# Altium integrated library Analog Devices RF IF Direct Digital Synthesis.IntLib: 76 symbols (part 8 of 9)
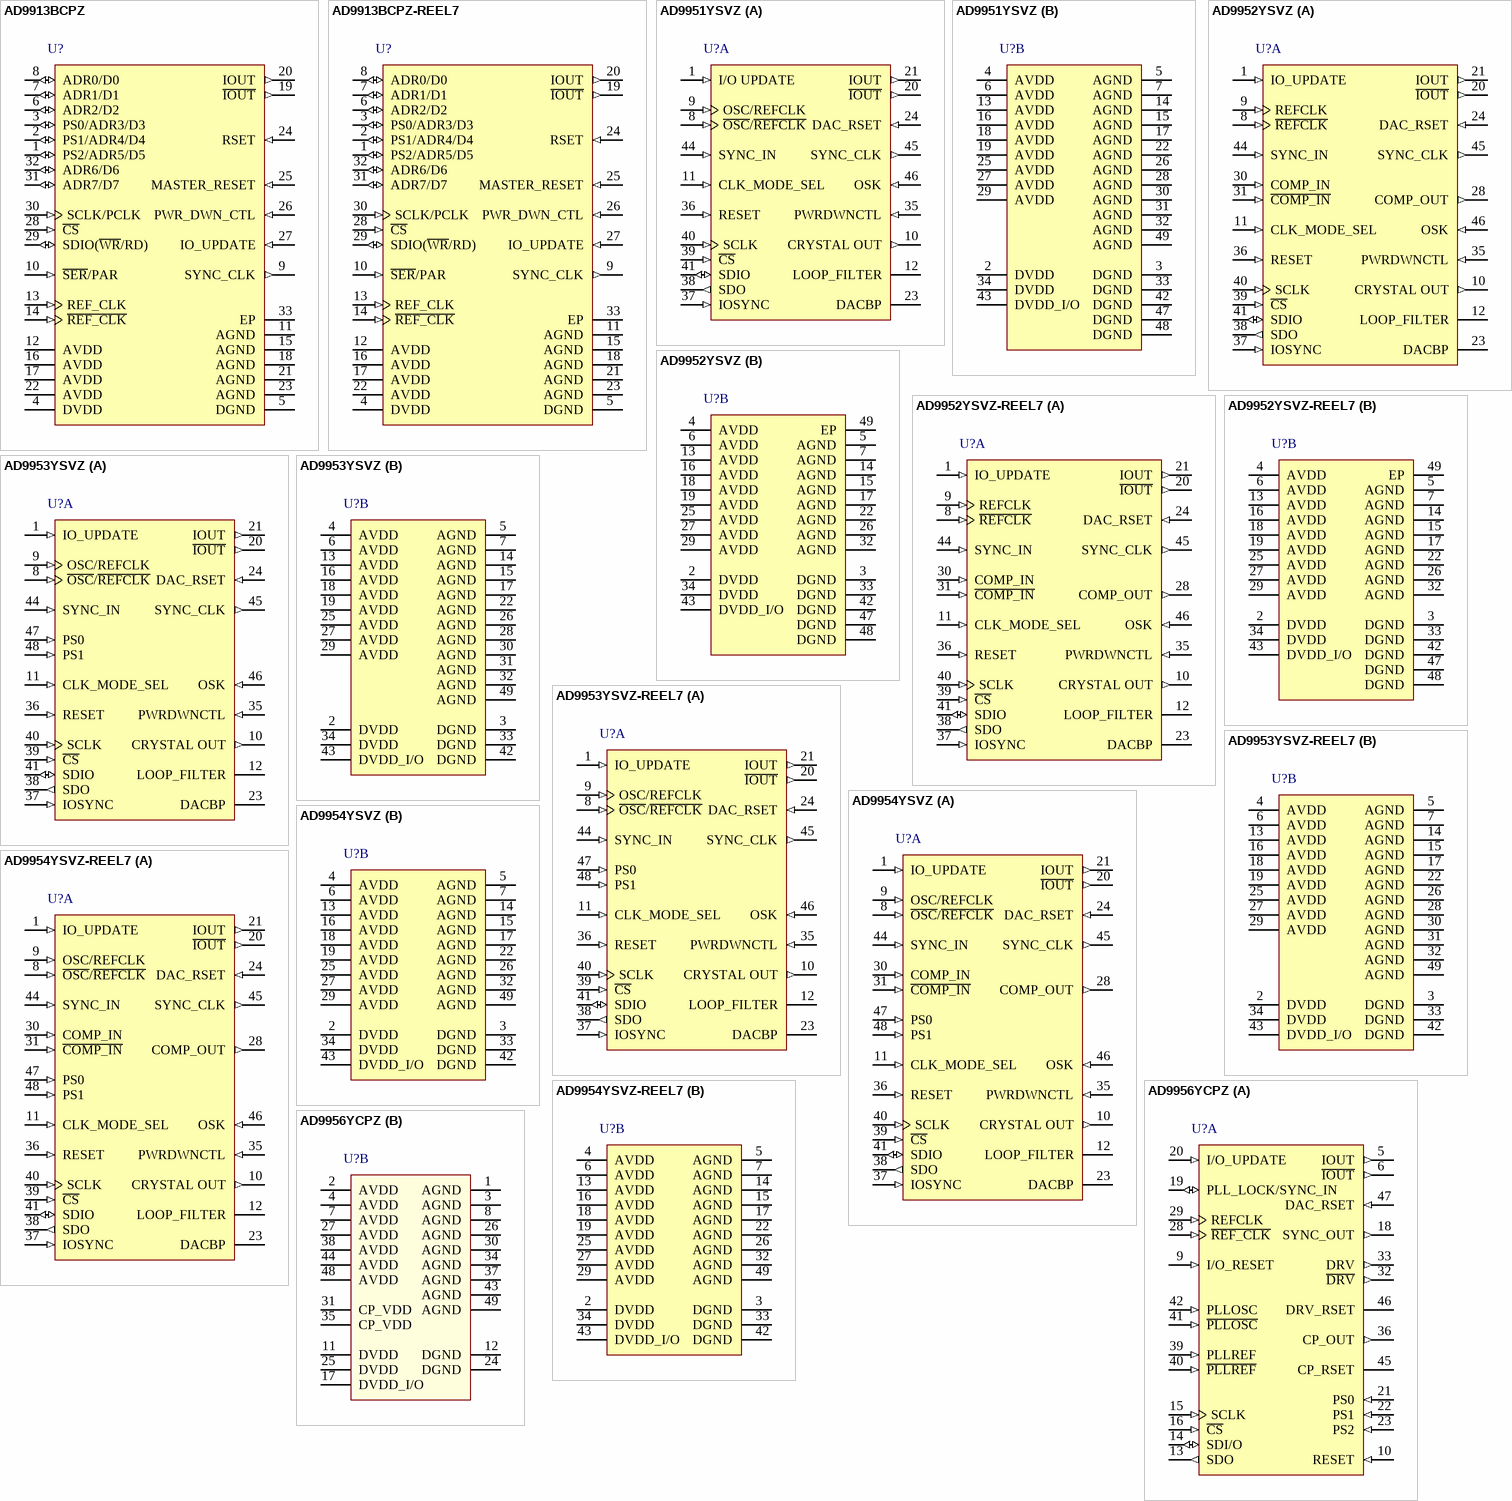
[diagram p12: symbols AD9913BCPZ to AD9956YCPZ]

## AD9953YSVZ
designator U?
400 MSPS, 14-Bit, 1.8 V CMOS Direct Digital Synthesizer, Serial, SV-48-4, 250 Tray, Pb-Free; Master fclk: 400MHz; Resolution (Bits): 14bit; Tuning Word Width (bits): 32bit; REFCLK Multiplier: Yes; Compliance Range (V): 2.05V; FS Iout (mA nom): 10mA; DatasheetVersion: Rev. A; PackageVersion: 10/21/2005; PackageReference: SV-48-4; PackageDescription: 48-Lead Thin Quad Flat Package, Exposed Pad [TQFP_EP]; I/O Interface: Serial; Code_JEDEC: MS-026-ABC; ComponentLink1Description: Manufacturer URL; ComponentLink1URL: www.analog.com; ComponentLink2Description: Datasheet; ComponentLink2URL: http://www.analog.com/static/imported-files/data_sheets/AD9953.pdf; ComponentLink3Description: Package Specification; ComponentLink3URL: http://www.analog.com/static/imported-files/packages/PKG_PDF/TQFP_ED(SV)/SV_48_4.pdf
footprint ADI-SV-48-4_N (Thin QFP, 48-Leads, Body 7x7mm, Pitch 0.5mm, Thermal Pad 3.5x3.5mm, IPC Medium Density)
footprint ADI-SV-48-4_L (Thin QFP, 48-Leads, Body 7x7mm, Pitch 0.5mm, Thermal Pad 3.5x3.5mm, IPC High Density)
footprint ADI-SV-48-4_M (Thin QFP, 48-Leads, Body 7x7mm, Pitch 0.5mm, Thermal Pad 3.5x3.5mm, IPC Low Density)
part A pins: 1 IO_UPDATE (in) "The rising edge transfers the contents of the internal buffer memory to the I/O registers. This pin must be set up and held around the SYNC_CLK output signal.", 8 ~{OSC}/~{REFCLK} (in) "Complementary Reference Clock/Oscillator Input. When the REFCLK port is operated in singleended mode, REFCLK should be decoupled to AVDDwith a 0.1 uF capacitor.", 9 OSC/REFCLK (in) "Reference Clock/Oscillator Input. See Clock Input section for details on the OSCILLATOR/REFCLK operation.", 10 CRYSTAL OUT (out) "Output of the Oscillator Section", 11 CLK_MODE_SEL (in) "Control Pin for the Oscillator Section. When high, the oscillator section is enabled. When low, the oscillator section is bypassed.", 12 LOOP_FILTER "This pin provides the connection for the external zero compensation network of the REFCLK multiplier’s PLL loop filter. [see datasheet]", 20 ~{IOUT} (out) "Complementary DAC Output. Should be biased through a resistor to AVDD, not AGND", 21 IOUT (out) "DAC Output. Should be biased through a resistor to AVDD, not AGND.", 23 DACBP "DAC Biasline Decoupling Pin. A 0.1 uF capacitor to AGND is recommended.", 24 DAC_RSET (in) "A resistor (3.92 k ohm nominal) connected from AGND to DAC_RSET establishes the reference current for the DAC.", 35 PWRDWNCTL (in) "Input Pin Used as an External Power-Down Control (see Table 10 for details).", 36 RESET (in) "Active High Hardware Reset Pin. Assertion of the RESET pin forces the AD9953 to the initial state, as described in the I/O port register map.", 37 IOSYNC (in) "Asynchronous Active High Reset of the Serial Port Controller. When high, the current I/O operation is immediately terminated, enabling a new I/O operation to commence once IOSYNC is returned low. [see datasheet]", 38 SDO (out) "When operating the I/O port as a 3-wire serial port, this pin serves as the serial data output. When operated as a 2-wire serial port, this pin is unused and can be left unconnected.", 39 ~{CS} (in) "This pin functions as an active low chip select that allows multiple devices to share the I/O bus", 40 SCLK (in) "This pin functions as the serial data clock for I/O operations.", 41 SDIO (io) "When operating the I/O port as a 3-wire serial port, this pin serves as the serial data input only. When operated as a 2-wire serial port, this pin is the bidirectional serial data pin.", 44 SYNC_IN (in) "Input Signal Used to Synchronize Multiple AD9953s. This input is connected to the SYNC_CLK output of a master AD9953.", 45 SYNC_CLK (out) "Clock Output Pin that Serves as a Synchronizer for External Hardware", 46 OSK (in) "Input Pin Used to Control the Direction of the Shaped On-Off Keying Function when Programmed for Operation. OSK is synchronous to the SYNC_CLK pin. [see datasheet]", 47 PS0 (in) "Input pin used to select one of the four internal profiles. Profile <1:0> are synchronous to the SYNC_CLK pin. [see datasheet]", 48 PS1 (in) "Input pin used to select one of the four internal profiles. Profile <1:0> are synchronous to the SYNC_CLK pin. [see datasheet]"
part B pins: 2 DVDD (power) "Digital Power Supply Pins (1.8 V).", 3 DGND (power) "Digital Power Ground Pins.", 4 AVDD (power) "Analog Power Supply Pins (1.8 V).", 5 AGND (power) "Analog Power Ground Pins.", 6 AVDD (power) "Analog Power Supply Pins (1.8 V).", 7 AGND (power) "Analog Power Ground Pins.", 13 AVDD (power) "Analog Power Supply Pins (1.8 V).", 14 AGND (power) "Analog Power Ground Pins.", 15 AGND (power) "Analog Power Ground Pins.", 16 AVDD (power) "Analog Power Supply Pins (1.8 V).", 17 AGND (power) "Analog Power Ground Pins.", 18 AVDD (power) "Analog Power Supply Pins (1.8 V).", 19 AVDD (power) "Analog Power Supply Pins (1.8 V).", 22 AGND (power) "Analog Power Ground Pins.", 25 AVDD (power) "Analog Power Supply Pins (1.8 V).", 26 AGND (power) "Analog Power Ground Pins.", 27 AVDD (power) "Analog Power Supply Pins (1.8 V).", 28 AGND (power) "Analog Power Ground Pins.", 29 AVDD (power) "Analog Power Supply Pins (1.8 V).", 30 AGND (power) "Analog Power Ground Pins.", 31 AGND (power) "Analog Power Ground Pins.", 32 AGND (power) "Analog Power Ground Pins.", 33 DGND (power) "Digital Power Ground Pins.", 34 DVDD (power) "Digital Power Supply Pins (1.8 V).", 42 DGND (power) "Digital Power Ground Pins.", 43 DVDD_I/O (power) "Digital Power Supply (for I/O Cells Only, 3.3 V).", 49 AGND (power) "The exposed paddle on the bottom of the package is a ground connection for the DAC and must be attached to AGND in any board layout."

## AD9953YSVZ-REEL7
designator U?
400 MSPS, 14-Bit, 1.8 V CMOS Direct Digital Synthesizer, Serial, SV-48-4, 500 Reel, Pb-Free; Master fclk: 400MHz; Resolution (Bits): 14bit; Tuning Word Width (bits): 32bit; REFCLK Multiplier: Yes; Compliance Range (V): 2.05V; FS Iout (mA nom): 10mA; DatasheetVersion: Rev. A; PackageVersion: 10/21/2005; PackageReference: SV-48-4; PackageDescription: 48-Lead Thin Quad Flat Package, Exposed Pad [TQFP_EP]; I/O Interface: Serial; Code_JEDEC: MS-026-ABC; ComponentLink1Description: Manufacturer URL; ComponentLink1URL: www.analog.com; ComponentLink2Description: Datasheet; ComponentLink2URL: http://www.analog.com/static/imported-files/data_sheets/AD9953.pdf; ComponentLink3Description: Package Specification; ComponentLink3URL: http://www.analog.com/static/imported-files/packages/PKG_PDF/TQFP_ED(SV)/SV_48_4.pdf
footprint ADI-SV-48-4_N (Thin QFP, 48-Leads, Body 7x7mm, Pitch 0.5mm, Thermal Pad 3.5x3.5mm, IPC Medium Density)
footprint ADI-SV-48-4_L (Thin QFP, 48-Leads, Body 7x7mm, Pitch 0.5mm, Thermal Pad 3.5x3.5mm, IPC High Density)
footprint ADI-SV-48-4_M (Thin QFP, 48-Leads, Body 7x7mm, Pitch 0.5mm, Thermal Pad 3.5x3.5mm, IPC Low Density)
part A pins: 1 IO_UPDATE (in) "The rising edge transfers the contents of the internal buffer memory to the I/O registers. This pin must be set up and held around the SYNC_CLK output signal.", 8 ~{OSC}/~{REFCLK} (in) "Complementary Reference Clock/Oscillator Input. When the REFCLK port is operated in singleended mode, REFCLK should be decoupled to AVDDwith a 0.1 uF capacitor.", 9 OSC/REFCLK (in) "Reference Clock/Oscillator Input. See Clock Input section for details on the OSCILLATOR/REFCLK operation.", 10 CRYSTAL OUT (out) "Output of the Oscillator Section", 11 CLK_MODE_SEL (in) "Control Pin for the Oscillator Section. When high, the oscillator section is enabled. When low, the oscillator section is bypassed.", 12 LOOP_FILTER "This pin provides the connection for the external zero compensation network of the REFCLK multiplier’s PLL loop filter. [see datasheet]", 20 ~{IOUT} (out) "Complementary DAC Output. Should be biased through a resistor to AVDD, not AGND", 21 IOUT (out) "DAC Output. Should be biased through a resistor to AVDD, not AGND.", 23 DACBP "DAC Biasline Decoupling Pin. A 0.1 uF capacitor to AGND is recommended.", 24 DAC_RSET (in) "A resistor (3.92 k ohm nominal) connected from AGND to DAC_RSET establishes the reference current for the DAC.", 35 PWRDWNCTL (in) "Input Pin Used as an External Power-Down Control (see Table 10 for details).", 36 RESET (in) "Active High Hardware Reset Pin. Assertion of the RESET pin forces the AD9953 to the initial state, as described in the I/O port register map.", 37 IOSYNC (in) "Asynchronous Active High Reset of the Serial Port Controller. When high, the current I/O operation is immediately terminated, enabling a new I/O operation to commence once IOSYNC is returned low. [see datasheet]", 38 SDO (out) "When operating the I/O port as a 3-wire serial port, this pin serves as the serial data output. When operated as a 2-wire serial port, this pin is unused and can be left unconnected.", 39 ~{CS} (in) "This pin functions as an active low chip select that allows multiple devices to share the I/O bus", 40 SCLK (in) "This pin functions as the serial data clock for I/O operations.", 41 SDIO (io) "When operating the I/O port as a 3-wire serial port, this pin serves as the serial data input only. When operated as a 2-wire serial port, this pin is the bidirectional serial data pin.", 44 SYNC_IN (in) "Input Signal Used to Synchronize Multiple AD9953s. This input is connected to the SYNC_CLK output of a master AD9953.", 45 SYNC_CLK (out) "Clock Output Pin that Serves as a Synchronizer for External Hardware", 46 OSK (in) "Input Pin Used to Control the Direction of the Shaped On-Off Keying Function when Programmed for Operation. OSK is synchronous to the SYNC_CLK pin. [see datasheet]", 47 PS0 (in) "Input pin used to select one of the four internal profiles. Profile <1:0> are synchronous to the SYNC_CLK pin. [see datasheet]", 48 PS1 (in) "Input pin used to select one of the four internal profiles. Profile <1:0> are synchronous to the SYNC_CLK pin. [see datasheet]"
part B pins: 2 DVDD (power) "Digital Power Supply Pins (1.8 V).", 3 DGND (power) "Digital Power Ground Pins.", 4 AVDD (power) "Analog Power Supply Pins (1.8 V).", 5 AGND (power) "Analog Power Ground Pins.", 6 AVDD (power) "Analog Power Supply Pins (1.8 V).", 7 AGND (power) "Analog Power Ground Pins.", 13 AVDD (power) "Analog Power Supply Pins (1.8 V).", 14 AGND (power) "Analog Power Ground Pins.", 15 AGND (power) "Analog Power Ground Pins.", 16 AVDD (power) "Analog Power Supply Pins (1.8 V).", 17 AGND (power) "Analog Power Ground Pins.", 18 AVDD (power) "Analog Power Supply Pins (1.8 V).", 19 AVDD (power) "Analog Power Supply Pins (1.8 V).", 22 AGND (power) "Analog Power Ground Pins.", 25 AVDD (power) "Analog Power Supply Pins (1.8 V).", 26 AGND (power) "Analog Power Ground Pins.", 27 AVDD (power) "Analog Power Supply Pins (1.8 V).", 28 AGND (power) "Analog Power Ground Pins.", 29 AVDD (power) "Analog Power Supply Pins (1.8 V).", 30 AGND (power) "Analog Power Ground Pins.", 31 AGND (power) "Analog Power Ground Pins.", 32 AGND (power) "Analog Power Ground Pins.", 33 DGND (power) "Digital Power Ground Pins.", 34 DVDD (power) "Digital Power Supply Pins (1.8 V).", 42 DGND (power) "Digital Power Ground Pins.", 43 DVDD_I/O (power) "Digital Power Supply (for I/O Cells Only, 3.3 V).", 49 AGND (power) "The exposed paddle on the bottom of the package is a ground connection for the DAC and must be attached to AGND in any board layout."

## AD9954YSVZ
designator U?
400 MSPS, 14-Bit, 1.8 V CMOS Direct Digital Synthesizer, Serial, SV-48-4, 250 Tray, Pb-Free; Master fclk: 400MHz; Resolution (Bits): 14bit; Tuning Word Width (bits): 32bit; REFCLK Multiplier: Yes; Compliance Range (V): 2.05V; FS Iout (mA nom): 10mA; DatasheetVersion: Rev. B; PackageVersion: 10/21/2005; PackageReference: SV-48-4; PackageDescription: 48-Lead Thin Quad Flat Package, Exposed Pad [TQFP_EP]; I/O Interface: Serial; Code_JEDEC: MS-026-ABC; ComponentLink1Description: Manufacturer URL; ComponentLink1URL: www.analog.com; ComponentLink2Description: Datasheet; ComponentLink2URL: http://www.analog.com/static/imported-files/data_sheets/AD9954.pdf; ComponentLink3Description: Package Specification; ComponentLink3URL: http://www.analog.com/static/imported-files/packages/PKG_PDF/TQFP_ED(SV)/SV_48_4.pdf
footprint ADI-SV-48-4_N (Thin QFP, 48-Leads, Body 7x7mm, Pitch 0.5mm, Thermal Pad 3.5x3.5mm, IPC Medium Density)
footprint ADI-SV-48-4_L (Thin QFP, 48-Leads, Body 7x7mm, Pitch 0.5mm, Thermal Pad 3.5x3.5mm, IPC High Density)
footprint ADI-SV-48-4_M (Thin QFP, 48-Leads, Body 7x7mm, Pitch 0.5mm, Thermal Pad 3.5x3.5mm, IPC Low Density)
part A pins: 1 IO_UPDATE (in) "The rising edge transfers the contents of the internal buffer memory to the I/O registers.  See Synchronization—Register Updates (I/O UPDATE) section for details", 8 ~{OSC}/~{REFCLK} (in) "Oscillator Input/Complementary Reference Clock. When the REFCLK port is operated in  single-ended mode, REFCLK should be decoupled to AVDD with a 0.1 uF capacitor", 9 OSC/REFCLK (in) "Oscillator Input/Reference Clock. See Table 5 for details on the OSC/REFCLK operation", 10 CRYSTAL OUT (out) "Output of the Oscillator Section", 11 CLK_MODE_SEL (in) "Control Pin for the Oscillator Section (1.8 V logic only). See REFCLK Input section for detailed instructions.", 12 LOOP_FILTER "This pin provides the connection for the external zero compensation network of the REFCLK multiplier’s PLL loop filter. The network varies based on the multiplication value in the PLL loop. [see datasheet]", 20 ~{IOUT} (out) "Complementary DAC Output. Should be biased through a resistor to AVDD, not AGND", 21 IOUT (out) "DAC Output. Should be biased through a resistor to AVDD, not AGND.", 23 DACBP "DAC Band Gap Decoupling Pin. A 0.1 uF capacitor to AGND is recommended", 24 DAC_RSET (in) "A resistor (3.92 k ohm nominal) connected from AGND to DAC_RSET establishes the reference  current for the DAC. See equation in DAC Output section", 28 COMP_OUT (out) "Comparator Output.", 30 COMP_IN (in) "Comparator Input", 31 ~{COMP_IN} (in) "Comparator Complementary Input", 35 PWRDWNCTL (in) "Input Pin Used as an External Power-Down Control (see Table 9 for details)", 36 RESET (in) "Active High Hardware Reset Pin. Assertion of the RESET pin forces the AD9954 to the default state, as described in the right-hand column of Table 12, which is the I/O port register map.", 37 IOSYNC (in) "Asynchronous Active High Reset of the Serial Port Controller. When high, the current I/O operation is immediately terminated, enabling a new I/O operation to commence once  IOSYNC is returned low. [see datasheet]", 38 SDO (out) "See Serial Interface Port Pin Description section for details.", 39 ~{CS} (in) "See Serial Interface Port Pin Description section for details.", 40 SCLK (in) "See Serial Interface Port Pin Description section for details", 41 SDIO (io) "See Serial Interface Port Pin Description section for details", 44 SYNC_IN (in) "Input Signal Used to Synchronize Multiple AD9954s. This input is connected to the SYNC_CLK  output of a master AD9954", 45 SYNC_CLK (out) "Clock Output Pin that Serves as a Synchronizer for External Hardware.", 46 OSK (in) "Input Pin Used to Control the Direction of the Shaped On-Off Keying Function When Programmed for Operation. OSK is synchronous to the SYNC_CLK pin. [see datasheet]", 47 PS0 (in) "Input Pins Used to Select One of the Internal Phase/Frequency Profiles. PS1 and PS0 are synchronous to the SYNC_CLK pin. [see datasheet]", 48 PS1 (in) "Input Pins Used to Select One of the Internal Phase/Frequency Profiles. PS1 and PS0 are synchronous to the SYNC_CLK pin. [see datasheet]"
part B pins: 2 DVDD (power) "Digital Power Supply Pins (1.8 V)", 3 DGND (power) "Digital Power Ground Pins.", 4 AVDD (power) "Analog Power Supply Pins (1.8 V)", 5 AGND (power) "Analog Power Ground Pins", 6 AVDD (power) "Analog Power Supply Pins (1.8 V).", 7 AGND (power) "Analog Power Ground Pins", 13 AVDD (power) "Analog Power Supply Pins (1.8 V).", 14 AGND (power) "Analog Power Ground Pins", 15 AGND (power) "Analog Power Ground Pins", 16 AVDD (power) "Analog Power Supply Pins (1.8 V).", 17 AGND (power) "Analog Power Ground Pins", 18 AVDD (power) "Analog Power Supply Pins (1.8 V).", 19 AVDD (power) "Analog Power Supply Pins (1.8 V).", 22 AGND (power) "Analog Power Ground Pins", 25 AVDD (power) "Analog Power Supply Pins (1.8 V).", 26 AGND (power) "Analog Power Ground Pins", 27 AVDD (power) "Analog Power Supply Pins (1.8 V).", 29 AVDD (power) "Analog Power Supply Pins (1.8 V).", 32 AGND (power) "Analog Power Ground Pins.", 33 DGND (power) "Digital Power Ground Pins.", 34 DVDD (power) "Digital Power Supply Pins (1.8 V).", 42 DGND (power) "Digital Power Ground Pins.", 43 DVDD_I/O (power) "Digital Power Supply. This pin is for I/O cells only, 3.3 V.", 49 AGND (power) "The Exposed Paddle on the Bottom of the Package. It is a ground connection for the DAC and  must be attached to AGND in any board layout."

## AD9954YSVZ-REEL7
designator U?
400 MSPS, 14-Bit, 1.8 V CMOS Direct Digital Synthesizer, Serial, SV-48-4, 500 Reel, Pb-Free; Master fclk: 400MHz; Resolution (Bits): 14bit; Tuning Word Width (bits): 32bit; REFCLK Multiplier: Yes; Compliance Range (V): 2.05V; FS Iout (mA nom): 10mA; DatasheetVersion: Rev. B; PackageVersion: 10/21/2005; PackageReference: SV-48-4; PackageDescription: 48-Lead Thin Quad Flat Package, Exposed Pad [TQFP_EP]; I/O Interface: Serial; Code_JEDEC: MS-026-ABC; ComponentLink1Description: Manufacturer URL; ComponentLink1URL: www.analog.com; ComponentLink2Description: Datasheet; ComponentLink2URL: http://www.analog.com/static/imported-files/data_sheets/AD9954.pdf; ComponentLink3Description: Package Specification; ComponentLink3URL: http://www.analog.com/static/imported-files/packages/PKG_PDF/TQFP_ED(SV)/SV_48_4.pdf
footprint ADI-SV-48-4_N (Thin QFP, 48-Leads, Body 7x7mm, Pitch 0.5mm, Thermal Pad 3.5x3.5mm, IPC Medium Density)
footprint ADI-SV-48-4_L (Thin QFP, 48-Leads, Body 7x7mm, Pitch 0.5mm, Thermal Pad 3.5x3.5mm, IPC High Density)
footprint ADI-SV-48-4_M (Thin QFP, 48-Leads, Body 7x7mm, Pitch 0.5mm, Thermal Pad 3.5x3.5mm, IPC Low Density)
part A pins: 1 IO_UPDATE (in) "The rising edge transfers the contents of the internal buffer memory to the I/O registers.  See Synchronization—Register Updates (I/O UPDATE) section for details", 8 ~{OSC}/~{REFCLK} (in) "Oscillator Input/Complementary Reference Clock. When the REFCLK port is operated in  single-ended mode, REFCLK should be decoupled to AVDD with a 0.1 uF capacitor", 9 OSC/REFCLK (in) "Oscillator Input/Reference Clock. See Table 5 for details on the OSC/REFCLK operation", 10 CRYSTAL OUT (out) "Output of the Oscillator Section", 11 CLK_MODE_SEL (in) "Control Pin for the Oscillator Section (1.8 V logic only). See REFCLK Input section for detailed instructions.", 12 LOOP_FILTER "This pin provides the connection for the external zero compensation network of the REFCLK multiplier’s PLL loop filter. The network varies based on the multiplication value in the PLL loop. [see datasheet]", 20 ~{IOUT} (out) "Complementary DAC Output. Should be biased through a resistor to AVDD, not AGND", 21 IOUT (out) "DAC Output. Should be biased through a resistor to AVDD, not AGND.", 23 DACBP "DAC Band Gap Decoupling Pin. A 0.1 uF capacitor to AGND is recommended", 24 DAC_RSET (in) "A resistor (3.92 k ohm nominal) connected from AGND to DAC_RSET establishes the reference  current for the DAC. See equation in DAC Output section", 28 COMP_OUT (out) "Comparator Output.", 30 COMP_IN (in) "Comparator Input", 31 ~{COMP_IN} (in) "Comparator Complementary Input", 35 PWRDWNCTL (in) "Input Pin Used as an External Power-Down Control (see Table 9 for details)", 36 RESET (in) "Active High Hardware Reset Pin. Assertion of the RESET pin forces the AD9954 to the default state, as described in the right-hand column of Table 12, which is the I/O port register map.", 37 IOSYNC (in) "Asynchronous Active High Reset of the Serial Port Controller. When high, the current I/O operation is immediately terminated, enabling a new I/O operation to commence once  IOSYNC is returned low. [see datasheet]", 38 SDO (out) "See Serial Interface Port Pin Description section for details.", 39 ~{CS} (in) "See Serial Interface Port Pin Description section for details.", 40 SCLK (in) "See Serial Interface Port Pin Description section for details", 41 SDIO (io) "See Serial Interface Port Pin Description section for details", 44 SYNC_IN (in) "Input Signal Used to Synchronize Multiple AD9954s. This input is connected to the SYNC_CLK  output of a master AD9954", 45 SYNC_CLK (out) "Clock Output Pin that Serves as a Synchronizer for External Hardware.", 46 OSK (in) "Input Pin Used to Control the Direction of the Shaped On-Off Keying Function When Programmed for Operation. OSK is synchronous to the SYNC_CLK pin. [see datasheet]", 47 PS0 (in) "Input Pins Used to Select One of the Internal Phase/Frequency Profiles. PS1 and PS0 are synchronous to the SYNC_CLK pin. [see datasheet]", 48 PS1 (in) "Input Pins Used to Select One of the Internal Phase/Frequency Profiles. PS1 and PS0 are synchronous to the SYNC_CLK pin. [see datasheet]"
part B pins: 2 DVDD (power) "Digital Power Supply Pins (1.8 V)", 3 DGND (power) "Digital Power Ground Pins.", 4 AVDD (power) "Analog Power Supply Pins (1.8 V)", 5 AGND (power) "Analog Power Ground Pins", 6 AVDD (power) "Analog Power Supply Pins (1.8 V).", 7 AGND (power) "Analog Power Ground Pins", 13 AVDD (power) "Analog Power Supply Pins (1.8 V).", 14 AGND (power) "Analog Power Ground Pins", 15 AGND (power) "Analog Power Ground Pins", 16 AVDD (power) "Analog Power Supply Pins (1.8 V).", 17 AGND (power) "Analog Power Ground Pins", 18 AVDD (power) "Analog Power Supply Pins (1.8 V).", 19 AVDD (power) "Analog Power Supply Pins (1.8 V).", 22 AGND (power) "Analog Power Ground Pins", 25 AVDD (power) "Analog Power Supply Pins (1.8 V).", 26 AGND (power) "Analog Power Ground Pins", 27 AVDD (power) "Analog Power Supply Pins (1.8 V).", 29 AVDD (power) "Analog Power Supply Pins (1.8 V).", 32 AGND (power) "Analog Power Ground Pins.", 33 DGND (power) "Digital Power Ground Pins.", 34 DVDD (power) "Digital Power Supply Pins (1.8 V).", 42 DGND (power) "Digital Power Ground Pins.", 43 DVDD_I/O (power) "Digital Power Supply. This pin is for I/O cells only, 3.3 V.", 49 AGND (power) "The Exposed Paddle on the Bottom of the Package. It is a ground connection for the DAC and  must be attached to AGND in any board layout."

## AD9956YCPZ
designator U?
2.7 GHz DDS-Based AgileRF Synthesizer, 14-Bit, Serial, CP-48-1, 260 Tray, Pb-Free; Master fclk: 400MHz; Resolution (Bits): 14bit; Tuning Word Width (bits): 48bit; REFCLK Multiplier: No; Compliance Range (V): 2.3V; FS Iout (mA nom): 10mA; DatasheetVersion: Rev. A; PackageVersion: Jan-2005; PackageReference: CP-48-1; PackageDescription: 48-Lead Lead Frame Chip Scale Package [LFCSP_VQ]; I/O Interface: Serial; Code_JEDEC: MO-220-VKKD-2; ComponentLink1Description: Manufacturer URL; ComponentLink1URL: www.analog.com; ComponentLink2Description: Datasheet; ComponentLink2URL: http://www.analog.com/static/imported-files/data_sheets/AD9956.pdf; ComponentLink3Description: Package Specification; ComponentLink3URL: http://www.analog.com/static/imported-files/packages/PKG_PDF/LFCSP(CP)/CP-48/CP_48_1.pdf
footprint ADI-CP-48-1_N (QFN, 48-Leads, Body 7x7mm, Pitch 0.5mm, Thermal Pad 5.1x5.1mm, IPC Medium Density)
footprint ADI-CP-48-1_L (QFN, 48-Leads, Body 7x7mm, Pitch 0.5mm, Thermal Pad 5.1x5.1mm, IPC High Density)
footprint ADI-CP-48-1_M (QFN, 48-Leads, Body 7x7mm, Pitch 0.5mm, Thermal Pad 5.1x5.1mm, IPC Low Density)
part A pins: 5 IOUT (out) "DAC Analog Output.", 6 ~{IOUT} (out) "DAC Analog Complementary Output.", 9 I/O_RESET (in) "Resets the serial port when synchronization is lost in communications but does not reset the device itself (ACTIVE HIGH). When not being used, this pin should be forced low, because it floats to the threshold value. [see datasheet]", 10 RESET (in) "Master RESET. Clears all accumulators and returns all registers to their default values (ACTIVE HIGH).", 13 SDO (out) "Serial Data Output. Used only when device is programmed for 3-wire serial data mode.", 14 SDI/O (io) "Serial Data I/O. When the part is programmed for 3-wire serial data mode, this is input only; in  2-wire mode, it serves as both the input and output.", 15 SCLK (in) "Serial Data Clock. Provides the clock signal for the serial data port.", 16 ~{CS} (in) "Active Low Signal That Enables Shared Serial Busses. When brought high, the serial port ignores the serial data clocks.", 18 SYNC_OUT (out) "Synchronization Clock Output.", 19 PLL_LOCK/SYNC_IN (io) "Bidirectional Dual Function Pin. Depending on device programming, it is either the DDS?synchronization input (allows alignment of multiple subclocks) or the PLL lock detect output signal.", 20 I/O_UPDATE (in) "This input pin, when set high, transfers the data from the I/O buffers to the internal registers on the rising edge of the internal SYNC_CLK, which can be observed on SYNC_OUT.", 21 PS0 (in) "Profile Select Pins. Specify one of eight frequency tuning word/phase offset word profiles. In linear sweep mode, PS0 determines the state of the sweep. [see datasheet]", 22 PS1 (in) "Profile Select Pins. Specify one of eight frequency tuning word/phase offset word profiles. In linear sweep mode, PS0 determines the state of the sweep. [see datasheet]", 23 PS2 (in) "Profile Select Pins. Specify one of eight frequency tuning word/phase offset word profiles. In linear sweep mode, PS0 determines the state of the sweep. [see datasheet]", 28 ~{REF_CLK} (in) "RF Divider and DDS REFCLK Complementary Input.", 29 REFCLK (in) "RF Divider and DDS REFCLK Input.", 32 ~{DRV} (out) "RF Divider and DDS REFCLK Input.", 33 DRV (out) "CML Driver Output.", 36 CP_OUT (out) "Charge Pump Output.", 39 PLLREF (in) "Phase Frequency Detector Reference Input.", 40 ~{PLLREF} (in) "Phase Frequency Detector Reference Complementary Input.", 41 ~{PLLOSC} (in) "Phase Frequency Detector Oscillator (Feedback) Complementary Input.", 42 PLLOSC (in) "Phase Frequency Detector Oscillator (Feedback) Input.", 45 CP_RSET "Charge Pump Current Set (Program Charge Pump Current with a Resistor to AGND).", 46 DRV_RSET "CML Driver Output Current Set (Program CML Output Current with a Resistor to AGND).", 47 DAC_RSET (in) "DAC Output Current Set (Program DAC Output Current with a Resistor to AGND)."
part B pins: 1 AGND (power) "Analog Ground.", 2 AVDD (power) "Analog Core Supply (1.8 V).", 3 AGND (power) "Analog Ground.", 4 AVDD (power) "Analog Core Supply (1.8 V).", 7 AVDD (power) "Analog Core Supply (1.8 V).", 8 AGND (power) "Analog Ground.", 11 DVDD (power) "Digital Core Supply (1.8 V).", 12 DGND (power) "Digital Ground.", 17 DVDD_I/O (power) "Digital Interface Supply (3.3 V).", 24 DGND (power) "Digital Ground.", 25 DVDD (power) "Digital Core Supply (1.8 V).", 26 AGND (power) "Analog Ground.", 27 AVDD (power) "Analog Core Supply (1.8 V).", 30 AGND (power) "Analog Ground.", 31 CP_VDD (power) "Charge Pump Supply Pin (3.3 V). To minimize noise on the charge pump, isolate this supply from DVDD_I/O.", 34 AGND (power) "Analog Ground.", 35 CP_VDD (power) "Charge Pump Supply Pin (3.3 V). To minimize noise on the charge pump, isolate this supply from DVDD_I/O.", 37 AGND (power) "Analog Ground.", 38 AVDD (power) "Analog Core Supply (1.8 V).", 43 AGND (power) "Analog Ground.", 44 AVDD (power) "Analog Core Supply (1.8 V).", 48 AVDD (power) "Analog Core Supply (1.8 V).", 49 AGND (power) "Analog Ground."

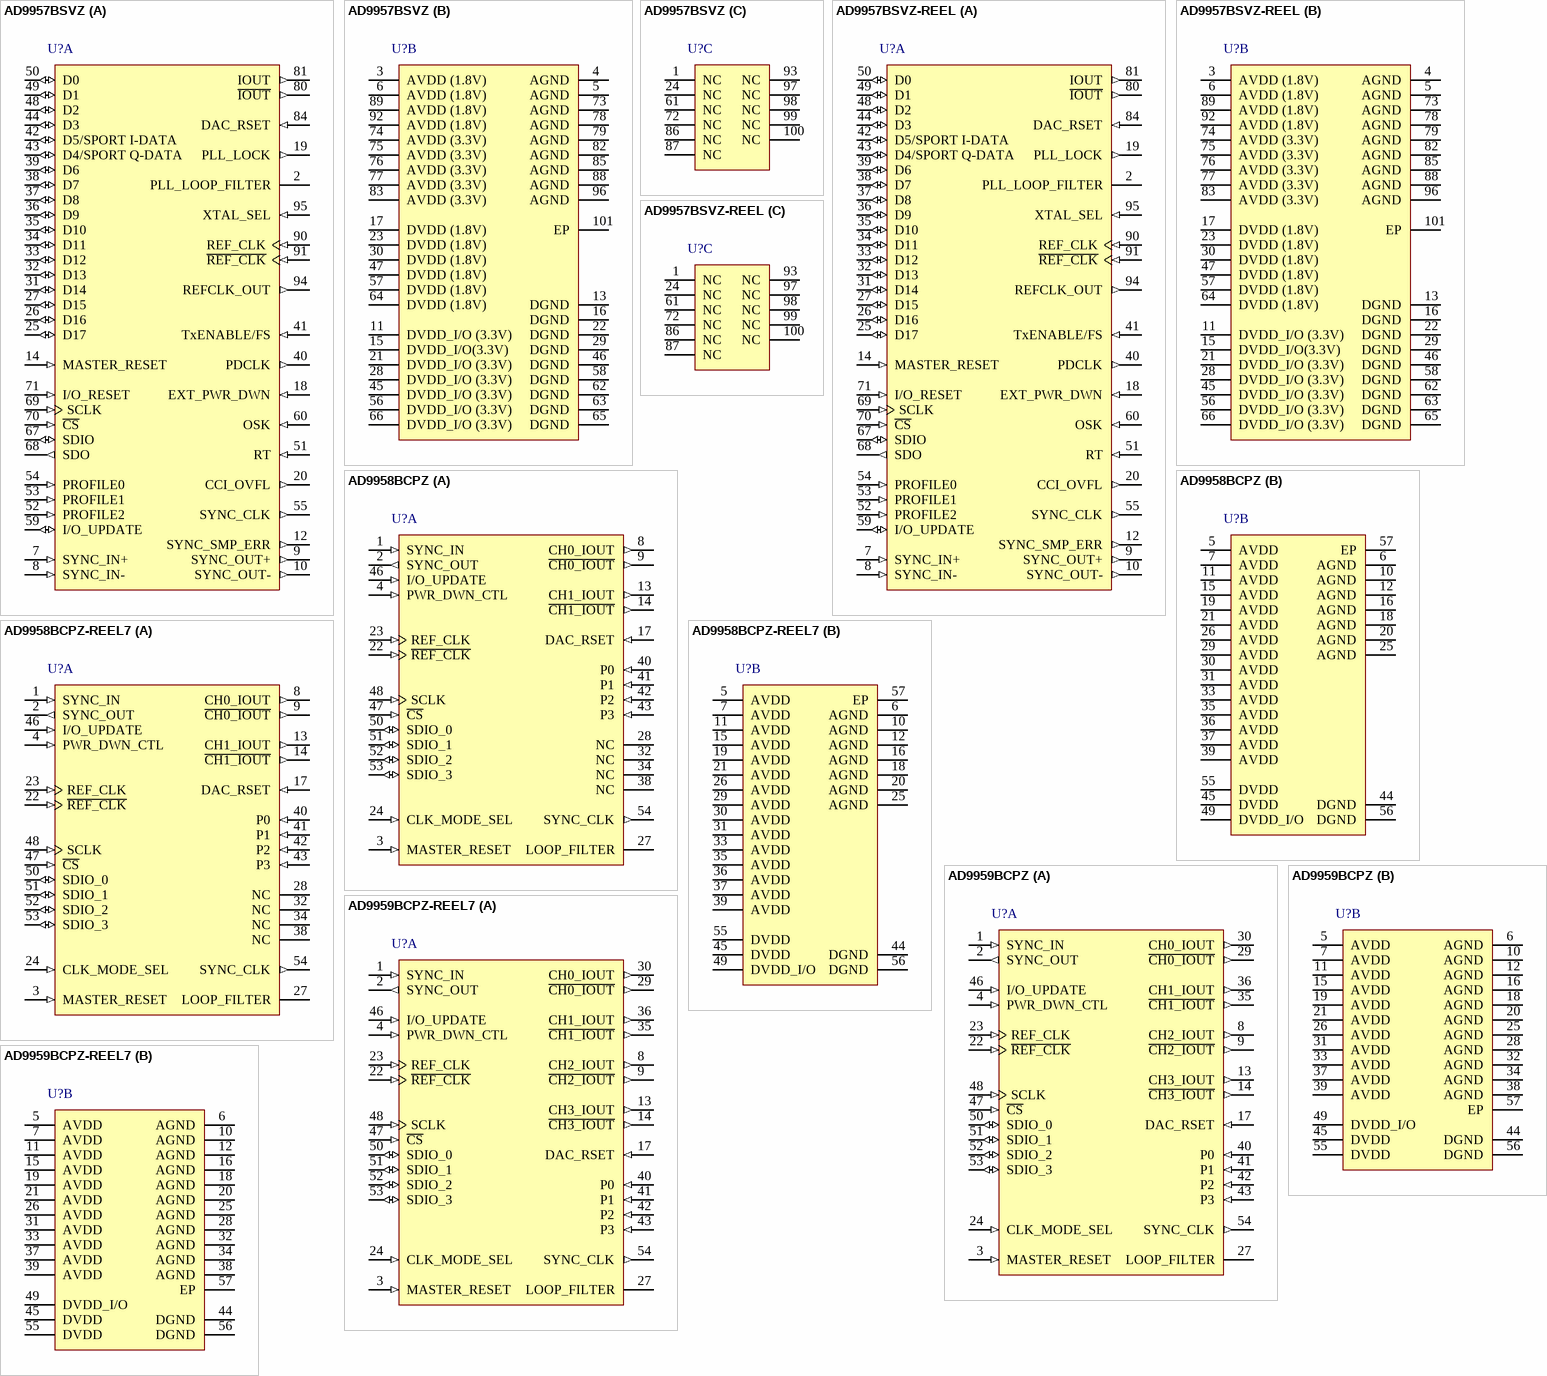
[diagram p5: symbols AD9957BSVZ to AD9959BCPZ-REEL7]

## AD9957BSVZ
designator U?
1 GSPS Quadrature Digital Upconverter with 18-Bit I/Q Data Path and 14-Bit DAC, Serial, SV-100-4, 90 Tray, Pb-Free; Master fclk: 1GHz; Resolution (Bits): 14bit; Tuning Word Width (bits): 32bit; REFCLK Multiplier: Yes; Compliance Range (V): 500mV; FS Iout (mA nom): 20mA; I Supply total (max): 759mA; DatasheetVersion: Rev.B; PackageVersion: 043106-A; PackageReference: SV-100-4; PackageDescription: 100-Lead Thin Quad Flat Package, Exposed Pad [TQFP_EP]; I/O Interface: Serial; Code_JEDEC: MS-026-AED-HD; ComponentLink1Description: Manufacturer URL; ComponentLink1URL: www.analog.com; ComponentLink2Description: Datasheet; ComponentLink2URL: http://www.analog.com/static/imported-files/data_sheets/AD9957.pdf; ComponentLink3Description: Package Specification; ComponentLink3URL: http://www.analog.com/static/imported-files/packages/PKG_PDF/TQFP_ED(SV)/SV_100_4.pdf
footprint ADI-SV-100-4_N (Thin QFP, 100-Leads, Body 14x14mm, Pitch 0.5mm, Thermal Pad 5x5mm, IPC Medium Density)
footprint ADI-SV-100-4_L (Thin QFP, 100-Leads, Body 14x14mm, Pitch 0.5mm, Thermal Pad 5x5mm, IPC High Density)
footprint ADI-SV-100-4_M (Thin QFP, 100-Leads, Body 14x14mm, Pitch 0.5mm, Thermal Pad 5x5mm, IPC Low Density)
part A pins: 2 PLL_LOOP_FILTER "PLL-Loop Filter Compensation. See External PLL Loop Filter Components section.", 7 SYNC_IN+ (in) "Synchronization Signal, Digital Input (Rising Edge Active). Synchronization signal from external master to synchronize internal subclocks. [see datasheet]", 8 SYNC_IN- (in) "Synchronization Signal, Digital Input (Falling Edge Active). Synchronization signal from external master to synchronize internal subclocks. [see datasheet]", 9 SYNC_OUT+ (out) "Synchronization Signal, Digital Output (Rising Edge Active). Synchronization signal from internal device subclocks to synchronize external slave devices. [see datasheet]", 10 SYNC_OUT- (out) "Synchronization Signal, Digital Output (Falling Edge Active). Synchronization signal from internal device subclocks to synchronize external slave devices. [see datasheet]", 12 SYNC_SMP_ERR (out) "Synchronization Sample Error, Digital Output (Active High). A high on this pin indicates that the AD9957 did not receive a valid sync signal on SYNC_IN+/SYNC_IN-. [see datasheet]", 14 MASTER_RESET (in) "Master Reset, Digital Input (Active High). This pin clears all memory elements and sets registers to default values.", 18 EXT_PWR_DWN (in) "External Power-Down, Digital Input (Active High). A high level on this pin initiates the currently programmed power-down mode. See the Power-Down Control section for  further details. [see datasheet]", 19 PLL_LOCK (out) "PLL Lock, Digital Output (Active High). A high on this pin indicates that the clock multiplier PLL has acquired lock to the reference clock input.", 20 CCI_OVFL (out) "CCI Overflow Digital Output, Active High. A high on this pin indicates a CCI filter overflow. This pin remains high until the CCI overflow condition is cleared.", 25 D17 (io) "Parallel Data Input Bus (Active High). These pins provide the interleaved, 18-bit, digital, I and Q vectors for the modulator to upconvert. [see datasheet]", 26 D16 (io) "Parallel Data Input Bus (Active High). These pins provide the interleaved, 18-bit, digital, I and Q vectors for the modulator to upconvert. [see datasheet]", 27 D15 (io) "Parallel Data Input Bus (Active High). These pins provide the interleaved, 18-bit, digital, I and Q vectors for the modulator to upconvert. [see datasheet]", 31 D14 (io) "Parallel Data Input Bus (Active High). These pins provide the interleaved, 18-bit, digital, I and Q vectors for the modulator to upconvert. [see datasheet]", 32 D13 (io) "Parallel Data Input Bus (Active High). These pins provide the interleaved, 18-bit, digital, I and Q vectors for the modulator to upconvert. [see datasheet]", 33 D12 (io) "Parallel Data Input Bus (Active High). These pins provide the interleaved, 18-bit, digital, I and Q vectors for the modulator to upconvert. [see datasheet]", 34 D11 (io) "Parallel Data Input Bus (Active High). These pins provide the interleaved, 18-bit, digital, I and Q vectors for the modulator to upconvert. [see datasheet]", 35 D10 (io) "Parallel Data Input Bus (Active High). These pins provide the interleaved, 18-bit, digital, I and Q vectors for the modulator to upconvert. [see datasheet]", 36 D9 (io) "Parallel Data Input Bus (Active High). These pins provide the interleaved, 18-bit, digital, I and Q vectors for the modulator to upconvert. [see datasheet]", 37 D8 (io) "Parallel Data Input Bus (Active High). These pins provide the interleaved, 18-bit, digital, I and Q vectors for the modulator to upconvert. [see datasheet]", 38 D7 (io) "Parallel Data Input Bus (Active High). These pins provide the interleaved, 18-bit, digital, I and Q vectors for the modulator to upconvert. [see datasheet]", 39 D6 (io) "Parallel Data Input Bus (Active High). These pins provide the interleaved, 18-bit, digital, I and Q vectors for the modulator to upconvert. [see datasheet]", 40 PDCLK (out) "Parallel Data Clock, Digital Output (Clock). See the Signal Processing section for details.", 41 TxENABLE/FS (in) "Transmit Enable, Digital Input (Active High). See the Signal Processing section for details.FS Input. In Blackfin interface mode, this pin serves as the FS input to receive the RFS output signal from the Blackfin.", 42 D5/SPORT I-DATA (io) "Parallel Data Input Bus (Active High). These pins provide the interleaved, 18-bit, digital, I and Q vectors for the modulator to upconvert. [see datasheet]", 43 D4/SPORT Q-DATA (io) "Parallel Data Input Bus (Active High). These pins provide the interleaved, 18-bit, digital, I and Q vectors for the modulator to upconvert. [see datasheet]", 44 D3 (io) "Parallel Data Input Bus (Active High). These pins provide the interleaved, 18-bit, digital, I and Q vectors for the modulator to upconvert. [see datasheet]", 48 D2 (io) "Parallel Data Input Bus (Active High). These pins provide the interleaved, 18-bit, digital, I and Q vectors for the modulator to upconvert. [see datasheet]", 49 D1 (io) "Parallel Data Input Bus (Active High). These pins provide the interleaved, 18-bit, digital, I and Q vectors for the modulator to upconvert. [see datasheet]", 50 D0 (io) "Parallel Data Input Bus (Active High). These pins provide the interleaved, 18-bit, digital, I and Q vectors for the modulator to upconvert. [see datasheet]", 51 RT (in) "RAM Trigger, Digital Input (Active High). This pin provides control for the RAM amplitude scaling function. When this function is engaged, a high sweeps the amplitude from the beginning RAM address to the end. [see datasheet]", 52 PROFILE2 (in) "Profile Select Pins, Digital Inputs (Active High). These pins select one of eight phase/frequency profiles for the DDS core (single tone or carrier tone). [see datasheet]", 53 PROFILE1 (in) "Profile Select Pins, Digital Inputs (Active High). These pins select one of eight phase/frequency profiles for the DDS core (single tone or carrier tone). [see datasheet]", 54 PROFILE0 (in) "Profile Select Pins, Digital Inputs (Active High). These pins select one of eight phase/frequency profiles for the DDS core (single tone or carrier tone). [see datasheet]", 55 SYNC_CLK (out) "Output System Clock/4, Digital Output (Clock). The I/O_UPDATE and PROFILE<2:0> pins should be set up to the rising edge of this signal.", 59 I/O_UPDATE (io) "Input/Output Update; Digital Input Or Output (Active High) Depending on the Internal I/O Update Active Bit. [see datasheet]", 60 OSK (in) "Output Shift Keying, Digital Input (Active High). When using OSK (manual or automatic), this pin controls the OSK function. See the Output Shift Keying (OSK) section of the data sheet for details. [see datasheet]", 67 SDIO (io) "Serial Data Input/Output, Digital Input/Output (Active High). This pin can be either unidirectional or bidirectional (default), depending on configuration settings. [see datasheet]", 68 SDO (out) "Serial Data Output, Digital Output (Active High). This pin is only active in unidirectional serial data mode. In this mode, it functions as the output. [see datasheet]", 69 SCLK (in) "Serial Data Clock. Digital clock (rising edge on write, falling edge on read). This pin provides the serial data clock for the control data path. [see datasheet]", 70 ~{CS} (in) "Chip Select, Digital Input (Active Low). Bringing this pin low enables the AD9957 to detect serial clock rising/falling edges. [see datasheet]", 71 I/O_RESET (in) "Input/Output Reset, Digital Input (Active High). Rather than resetting the entire device during a failed communication cycle, when brought high, this pin resets the state machine of the serial port controller and clears any I/O buffers that have been wri", 80 ~{IOUT} (out) "Open-Source DAC Complementary Output Source. Analog output, current mode. Connect through 50 ? to AGND.", 81 IOUT (out) "Open-Source DAC Output Source. Analog output, current mode. Connect through 50 ? to AGND.", 84 DAC_RSET (in) "Analog Reference Pin. This pin programs the DAC output full-scale reference current. Attach a 10 k? resistor to AGND.", 90 REF_CLK (in) "Reference Clock Input. Analog input. See the REFCLK Overview section for more details.", 91 ~{REF_CLK} (in) "Complementary Reference Clock Input. Analog input. See the REFCLK Overview section for more details.", 94 REFCLK_OUT (out) "Reference Clock Output. Analog output. See the REFCLK Overview section for more details.", 95 XTAL_SEL (in) "Crystal Select (1.8 V Logic). Analog input (active high). Driving the XTAL_SEL pin high enables the internal oscillator to be used with a crystal resonator. If unused, connect it to AGND."
part B pins: 3 AVDD (1.8V) (power) "Analog Core VDD. 1.8 V analog supplies.", 4 AGND (power) "Analog Ground.", 5 AGND (power) "Analog Ground.", 6 AVDD (1.8V) (power) "Analog Core VDD. 1.8 V analog supplies.", 11 DVDD_I/O (3.3V) (power) "Digital Input/Output VDD. 3.3 V digital supplies.", 13 DGND (power) "Digital Ground.", 15 DVDD_I/O(3.3V) (power) "Digital Input/Output VDD. 3.3 V digital supplies.", 16 DGND (power) "Digital Ground.", 17 DVDD (1.8V) (power) "Digital Core VDD. 1.8 V digital supplies.", 21 DVDD_I/O (3.3V) (power) "Digital Input/Output VDD. 3.3 V digital supplies.", 22 DGND (power) "Digital Ground.", 23 DVDD (1.8V) (power) "Digital Core VDD. 1.8 V digital supplies.", 28 DVDD_I/O (3.3V) (power) "Digital Input/Output VDD. 3.3 V digital supplies.", 29 DGND (power) "Digital Ground.", 30 DVDD (1.8V) (power) "Digital Core VDD. 1.8 V digital supplies.", 45 DVDD_I/O (3.3V) (power) "Digital Input/Output VDD. 3.3 V digital supplies.", 46 DGND (power) "Digital Ground.", 47 DVDD (1.8V) (power) "Digital Core VDD. 1.8 V digital supplies.", 56 DVDD_I/O (3.3V) (power) "Digital Input/Output VDD. 3.3 V digital supplies.", 57 DVDD (1.8V) (power) "Digital Core VDD. 1.8 V digital supplies.", 58 DGND (power) "Digital Ground.", 62 DGND (power) "Digital Ground.", 63 DGND (power) "Digital Ground.", 64 DVDD (1.8V) (power) "Digital Core VDD. 1.8 V digital supplies.", 65 DGND (power) "Digital Ground.", 66 DVDD_I/O (3.3V) (power) "Digital Input/Output VDD. 3.3 V digital supplies.", 73 AGND (power) "Analog Ground.", 74 AVDD (3.3V) (power) "Analog DAC VDD. 3.3 V analog supplies.", 75 AVDD (3.3V) (power) "Analog DAC VDD. 3.3 V analog supplies.", 76 AVDD (3.3V) (power) "Analog DAC VDD. 3.3 V analog supplies.", 77 AVDD (3.3V) (power) "Analog DAC VDD. 3.3 V analog supplies.", 78 AGND (power) "Analog Ground.", 79 AGND (power) "Analog Ground.", 82 AGND (power) "Analog Ground.", 83 AVDD (3.3V) (power) "Analog DAC VDD. 3.3 V analog supplies.", 85 AGND (power) "Analog Ground.", 88 AGND (power) "Analog Ground.", 89 AVDD (1.8V) (power) "Analog Core VDD. 1.8 V analog supplies.", 92 AVDD (1.8V) (power) "Analog Core VDD. 1.8 V analog supplies.", 96 AGND (power) "Analog Ground.", 101 EP (power) "The EPAD should be soldered to ground."
part C pins: 1 NC "Not Connected. Allow device pin to float.", 24 NC "Not Connected. Allow device pin to float.", 61 NC "Not Connected. Allow device pin to float.", 72 NC "Not Connected. Allow device pin to float.", 86 NC "Not Connected. Allow device pin to float.", 87 NC "Not Connected. Allow device pin to float.", 93 NC "Not Connected. Allow device pin to float.", 97 NC "Not Connected. Allow device pin to float.", 98 NC "Not Connected. Allow device pin to float.", 99 NC "Not Connected. Allow device pin to float.", 100 NC "Not Connected. Allow device pin to float."